# EAGLE library part SFP_CONN (library sfp)
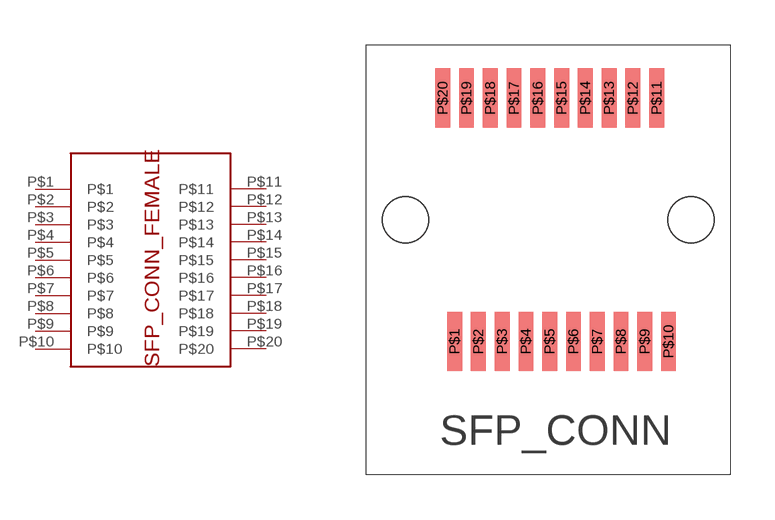
[diagram p0: symbol with the pads of SFP_CONN; footprint SFP_CONN]

Designator prefix -

## SFP_CONN  [SFP_CONN]
P$1  P$1
P$2  P$2
P$3  P$3
P$4  P$4
P$5  P$5
P$6  P$6
P$7  P$7
P$8  P$8
P$9  P$9
P$10  P$10
P$11  P$11
P$12  P$12
P$13  P$13
P$14  P$14
P$15  P$15
P$16  P$16
P$17  P$17
P$18  P$18
P$19  P$19
P$20  P$20

## Footprint SFP_CONN (pad centres in mm)
smd 0.5 x 2: P$1 -3.12,-2.6; P$2 -2.32,-2.6; P$3 -1.52,-2.6; P$4 -0.72,-2.6; P$5 0.08,-2.6; P$6 0.88,-2.6; P$7 1.68,-2.6; P$8 2.48,-2.6; P$9 3.28,-2.6; P$10 4.08,-2.6; P$11 3.68,5.6; P$12 2.88,5.6; P$13 2.08,5.6; P$14 1.28,5.6; P$15 0.48,5.6; P$16 -0.32,5.6; P$17 -1.12,5.6; P$18 -1.92,5.6; P$19 -2.72,5.6; P$20 -3.52,5.6
hole 1.55 at -4.77,1.5
hole 1.55 at 4.83,1.5